# Altium schematic symbol library eLFLv2_0.SCHLIB: 24 symbols
Pins are listed as number, name and electrical type; pins without a type are passive.

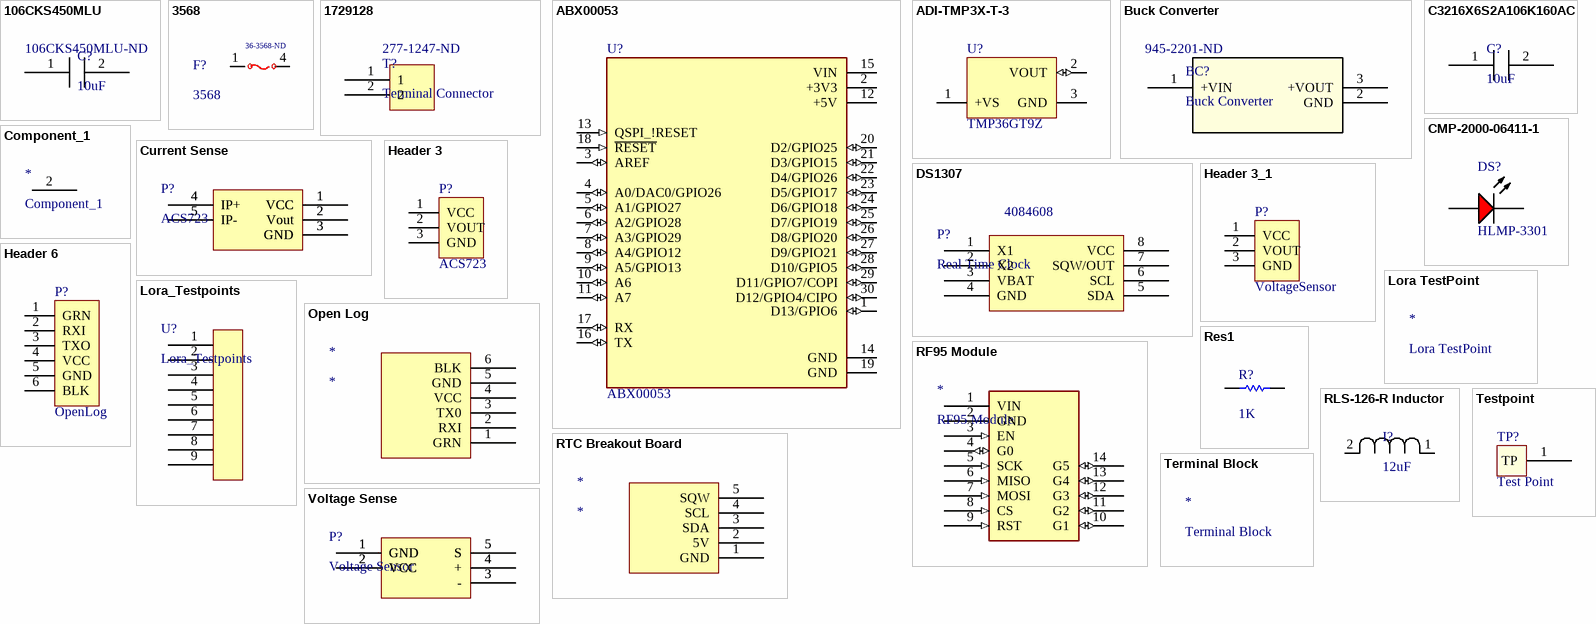
[diagram p0: symbols 106CKS450MLU to Voltage Sense]

## 106CKS450MLU
designator C?, comment 10uF  Supplier Part Number 1: 106CKS450MLU-ND
Aluminum Electrolytic Capacitor, Polarized, Aluminum (wet), 450V, 20% +Tol, 20% -Tol, 10uF, Through Hole Mount; Manufacturer: CDE Illinois Capacitor; Manufacturer Part Number: 106CKS450MLU; Supplier 1: Digi-Key; RoHS: Yes; Category: Aluminum Electrolytic Capacitors; ComponentLink1URL: https://datasheet.ciiva.com/16322/ckr-cksseries-16322639.pdf?src-supplier=Future+Electronics; ComponentLink1Description: https://datasheet.ciiva.com/16322/ckr-cksseries-16322639.pdf?src-supplier=Future+Electronics
footprint Capacitor (10uF,Polarized)
pins: 1 +, 2 -

## 3568
designator F?  Supplier Part Number 1: 36-3568-ND
Fuses/Accessories; Manufacturer: Keystone Electronics; Supplier 1: Digi-Key; Manufacturer Part Number: 3568; RoHS: Yes; Category: Fuse Holders; Stock 1: 22984; Pricing 1: 1=1.33000, 25=1.10240, 100=1.01060, 250=0.91868, 500=0.82682, 1000=0.73496, 2500=0.66606, 5000=0.64309 (USD); ComponentLink1URL: https://datasheet.ciiva.com:443/pdfs/VipMasterIC/IC/KEYC/KEYC-S-A0001230927/KEYC-S-A0001230927-1.pdf?src-supplier=IHS+Markit; ComponentLink1Description: https://datasheet.ciiva.com:443/pdfs/VipMasterIC/IC/KEYC/KEYC-S-A0001230927/KEYC-S-A0001230927-1.pdf?src-supplier=IHS+Markit; ComponentLink2URL: https://datasheet.ciiva.com/16294/m60-2p40-16294706.pdf?src-supplier=Future+Electronics; ComponentLink2Description: https://datasheet.ciiva.com/16294/m60-2p40-16294706.pdf?src-supplier=Future+Electronics; ComponentLink3URL: https://datasheet.ciiva.com/16874/70182101-16874378.pdf?src-supplier=Allied+Electronics; ComponentLink3Description: https://datasheet.ciiva.com/16874/70182101-16874378.pdf?src-supplier=Allied+Electronics
footprint Fuse
pins: 4,  1

## 1729128
designator T?, comment Terminal Connector  Supplier Part Number 1: 277-1247-ND
Barrier Strip Terminal Block, 13.5A, 1.5mm2, 1 Row(s), 1 Deck(s); Manufacturer: Phoenix Contact; Manufacturer Part Number: 1729128; Fastening Method: SCREW; Number of Decks: 1; Number of Ways: 2; Voltage Rating: 400V; Wire/Cable Gauge: 16AWG; Safety Approval: CSA,CUL,CB,EAC; Supplier 1: Digi-Key; RoHS: Yes; Category: Terminal Blocks; Stock 1: 54422; Pricing 1: 1=1.21000, 10=1.16200, 50=1.11100, 100=1.08070, 250=1.01000, 500=0.92920, 1000=0.85850, 2500=0.81810, 5000=0.77770 (USD); Mount: Board; Terminal and Terminal Block Type: BARRIER STRIP TERMINAL BLOCK; Number of Rows: 1; Current Rating: 13.5A; Wire Cross Section: 1.5mm2; RoHS Compliant: Yes; REACH SVHC: No SVHC; ComponentLink1URL: https://datasheet.ciiva.com:443/pdfs/VipMasterIC/IC/PCON/PCON-S-A0008047989/PCON-S-A0008036843-1.pdf?src-supplier=IHS+Markit; ComponentLink1Description: https://datasheet.ciiva.com:443/pdfs/VipMasterIC/IC/PCON/PCON-S-A0008047989/PCON-S-A0008036843-1.pdf?src-supplier=IHS+Markit; ComponentLink2URL: https://datasheet.ciiva.com/16046/1729128-16046181.pdf?src-supplier=Onlinecomponents.com; ComponentLink2Description: https://datasheet.ciiva.com/16046/1729128-16046181.pdf?src-supplier=Onlinecomponents.com; ComponentLink3URL: https://datasheet.ciiva.com/15169/getdatasheetpartid-199310-15169845.pdf?src-supplier=Verical; ComponentLink3Description: https://datasheet.ciiva.com/15169/getdatasheetpartid-199310-15169845.pdf?src-supplier=Verical; ComponentLink4URL: https://datasheet.ciiva.com/823/1729128-823779.pdf?src-supplier=Digi-Key; ComponentLink4Description: https://datasheet.ciiva.com/823/1729128-823779.pdf?src-supplier=Digi-Key; ComponentLink5URL: https://datasheet.ciiva.com/14607/70054405-14607157.pdf?src-supplier=Allied+Electronics; ComponentLink5Description: https://datasheet.ciiva.com/14607/70054405-14607157.pdf?src-supplier=Allied+Electronics; ComponentLink6URL: https://datasheet.ciiva.com/29218/743664-da-01-en-printklemmenblock-mkdsn-1-5-2-5-08-29218154.pdf?src-supplier=Conrad; ComponentLink6Description: https://datasheet.ciiva.com/29218/743664-da-01-en-printklemmenblock-mkdsn-1-5-2-5-08-29218154.pdf?src-supplier=Conrad
footprint Terminal Block
pins: 1, 2

## ABX00053
designator U?
ARDUINO NANO RP2040 CONNECT WITH; MF: {'manufacturer': u'Arduino'}; Package: None; Value: *; MP: ABX00053; Availability: Unavailable; Price: None
footprint Arduino Nano Every
pins: 1 D13/GPIO6 (io), 2 +3V3 (power), 3 AREF (io), 4 A0/DAC0/GPIO26 (io), 5 A1/GPIO27 (io), 6 A2/GPIO28 (io), 7 A3/GPIO29 (io), 8 A4/GPIO12 (io), 9 A5/GPIO13 (io), 10 A6 (io), 11 A7 (io), 12 +5V (power), 13 QSPI_!RESET (in), 14 GND (power), 15 VIN (power), 16 TX (io), 17 RX (io), 18 ~{RESET} (in), 19 GND (power), 20 D2/GPIO25 (io), 21 D3/GPIO15 (io), 22 D4/GPIO26 (io), 23 D5/GPIO17 (io), 24 D6/GPIO18 (io), 25 D7/GPIO19 (io), 26 D8/GPIO20 (io), 27 D9/GPIO21 (io), 28 D10/GPIO5 (io), 29 D11/GPIO7/COPI (io), 30 D12/GPIO4/CIPO (io)

## ADI-TMP3X-T-3
designator U?, comment TMP36GT9Z
Low Voltage Temperature Sensor, 2.7 to 5.5 V Supply, Industrial, 3-pin TO92 (T-3), Tray; Manufacturer: Analog Devices; ComponentLink2Description: Datasheet; PackageReference: T-3; Packing: Tray; ComponentLink2URL: http://www.analog.com/static/imported-files/data_sheets/TMP35_36_37.pdf; ComponentLink4Description: Product URL; ComponentLink3Description: Package Specification; Code_JEDEC: TO-226-AA; PartNumber: TMP36GT9Z; PackageDescription: 3-Pin Plastic Header-Style Package, 1.27 mm Pitch; PackageVersion: 042208-A, 04/2008; ComponentLink3URL: http://www.analog.com/static/imported-files/packages/PKG_PDF/TO-92(T)/T_3.pdf; ComponentLink1Description: Manufacturer URL; Supply Voltage Range: 2.7 to 5.5 V; Mounting Technology: Through Hole; DatasheetVersion: Rev. F; ComponentLink4URL: http://www.analog.com/en/mems-sensors/digital-temperature-sensors/tmp36/products/product.html; ComponentLink1URL: http://www.analog.com/en/index.html
footprint HDR1X3 (Connector; Header; 3 Position)
pins: 1 +VS (power), 2 VOUT (io), 3 GND (power)

## Buck Converter
designator BC?  Supplier Part Number 1: 945-2201-ND
Buck Converter / 5V output; Supplier 1: Digi-Key
footprint Buck Converter
pins: 1 +VIN (power), 2 GND, 3 +VOUT

## C3216X6S2A106K160AC
designator C?, comment 10uF
Ceramic Capacitor, Multilayer, Ceramic, 100V, 10% +Tol, 10% -Tol, X6S, 22% TC, 10uF, Surface Mount, 1206; Manufacturer: TDK; Manufacturer Part Number: C3216X6S2A106K160AC; Supplier 1: Digi-Key; RoHS: Yes; Category: Ceramic Capacitors; Stock 1: 266; Pricing 1: 1=1.33000, 10=1.05000, 50=0.91000, 100=0.78740, 500=0.59494, 1000=0.52495 (USD); Supplier Part Number 1: 445-C3216X6S2A106K160ACDKR-ND
footprint Ceramic Capacitor
pins: 1 +, 2 "10uF, SMD/SMT 1206 100VDC 10uF 10% X6S"

## CMP-2000-06411-1
designator DS?, comment HLMP-3301
T-1 3/4 (5 mm) Diffused LED Lamp, 1.9 V, -40 to 100 degC, 2-Pin THD, RoHS, Bulk; Manufacturer: Broadcom Avago; Forward Current: 25mA; Forward Voltage: 2.4V; Peak Wavelength: 635nm; Shape Type: Circular; High Brightness: No; Main Category: StandardLED; Test Current (It): 10mA; Dominant Wave Length: 626nm; Number of  Elements: 1; Reverse Voltage: 5V; Chip Material: GaP; Product Height (mm): 9.19mm; Lens Type: ColoredDiffused; Viewing Angle: 60deg; Type: Uni-Color; Emitting Color: Red; Luminous Intensity: 5.4mcd; Power Dissipation: 85W; DELETED: Compliant; Product Depth (mm): 6.1mm; Package Description: 2-Pin Through Hole LED, Dia 5.85 mm; Mounting Technology: ThroughHole; Manufacturer URL: http://www.avagotech.com/; Package Type: T-13/4; Operating Temp Range: -40Cto100C; Datasheet URL: http://www.avagotech.com/docs/AV02-1558EN; Mounting: ThroughHole; Lens Dimensions: 5.08x5.08x8.3mm; Package Reference: HLMP-3301; Datasheet Version: 03/2015; Pin Count: 2; Packaging: TapeandReel; Operating Temperature Classification: Industrial; Lum Intensity: 5.4mcd; Rad Hardened: No; Product Length (mm): 6.1mm; Manufacturer Part Number: HLMP-3301
footprint LED
pins: 1 A, 2 K

## Component_1
designator *
pins: 2

## Current Sense
designator P?, comment ACS723
Header, 5-pin
footprint Current Sensor
pins: 1 VCC, 1 VCC, 2 Vout, 2 Vout, 3 GND, 3 GND, 4 IP+, 4 IP+, 5 IP-, 5 IP-

## DS1307
designator P?, comment Real Time Clock  Supplier Part Number 1: 4084608
Real Time Clock, Volatile, 1 Timer(s), CMOS, PDIP8; Manufacturer: Maxim; Manufacturer Part Number: DS1307+; Package Body Material: Plastic; Number of Timers/Counters: 1; Max Supply Voltage: 5.5V; Min Supply Voltage: 4.5V; Supply Voltage-Nom: 5V; Surface Mount: No; Max Frequency: 32kHz; Package Equivalence Code: DIP8,.3; Time @ Peak Reflow Temperature-Max (s): 30s; Qualification Status: Not Qualified; Supplier 1: Future Electronics; RoHS: Yes; Category: Real Time Clocks; Pricing 1: 1=3.73000, 15=3.42000, 40=3.32000, 100=3.22000, 250=3.13000 (USD); Package Code: DIP; Number of Pins: 8; Package Shape: Rectangular; Terminal Finish: Tin; Min Operating Temperature: 0°C; Max Operating Temperature: 70°C; JESD-30 Code: R-PDIP-T8; Package Style: IN-LINEMeter; Technology: CMOS; Terminal Form: Through Hole; Terminal Position: DUAL; JESD-609 Code: e3; Moisture Sensitivity Level: 1; Peak Reflow Temperature (Cel): 260°C; Power Supplies: 5V; Length: 9.375mm; Width: 7.62mm; Height - Seated (Max): 4.572mm; Terminal Pitch: 2.54mm; Temperature Grade: COMMERCIAL; REACH SVHC: Yes; RoHS Compliant: Yes; ComponentLink1URL: https://datasheet.ciiva.com:443/pdfs/VipMasterIC/IC/MAXM/MAXM-S-A0000633411/MAXM-S-A0000664014-1.pdf?src-supplier=IHS+Markit; ComponentLink1Description: https://datasheet.ciiva.com:443/pdfs/VipMasterIC/IC/MAXM/MAXM-S-A0000633411/MAXM-S-A0000664014-1.pdf?src-supplier=IHS+Markit; ComponentLink2URL: https://datasheet.ciiva.com/17079/ds1307+-17079678.pdf?src-supplier=Allied+Electronics; ComponentLink2Description: https://datasheet.ciiva.com/17079/ds1307+-17079678.pdf?src-supplier=Allied+Electronics; ComponentLink3URL: https://datasheet.ciiva.com/1139/1647366-1139141.pdf?src-supplier=Element14; ComponentLink3Description: https://datasheet.ciiva.com/1139/1647366-1139141.pdf?src-supplier=Element14; ComponentLink4URL: https://datasheet.ciiva.com/19457/1194679-19457340.pdf?src-supplier=Jameco; ComponentLink4Description: https://datasheet.ciiva.com/19457/1194679-19457340.pdf?src-supplier=Jameco; ComponentLink5URL: https://datasheet.ciiva.com/14099/ds1307-eng-tds-14099923.pdf?src-supplier=Distrelec; ComponentLink5Description: https://datasheet.ciiva.com/14099/ds1307-eng-tds-14099923.pdf?src-supplier=Distrelec; ComponentLink6URL: https://datasheet.ciiva.com/1240/ds1307-1240423.pdf?src-supplier=Digi-Key; ComponentLink6Description: https://datasheet.ciiva.com/1240/ds1307-1240423.pdf?src-supplier=Digi-Key; ComponentLink7URL: https://datasheet.ciiva.com/1491/ds1307-1491904.pdf?src-supplier=Element14; ComponentLink7Description: https://datasheet.ciiva.com/1491/ds1307-1491904.pdf?src-supplier=Element14; ComponentLink8URL: https://datasheet.ciiva.com/14188/ds1307-14188118.pdf?src-supplier=Avnet; ComponentLink8Description: https://datasheet.ciiva.com/14188/ds1307-14188118.pdf?src-supplier=Avnet; ComponentLink9URL: https://datasheet.ciiva.com/14244/ds1307-14244525.pdf?src-supplier=Avnet; ComponentLink9Description: https://datasheet.ciiva.com/14244/ds1307-14244525.pdf?src-supplier=Avnet
footprint Real Time Clock
pins: 1 X1, 2 X2, 3 VBAT, 4 GND, 5 SDA, 6 SCL, 7 SQW/OUT, 8 VCC

## Header 3
designator P?, comment ACS723
Header, 3-Pin; LatestRevisionDate: 17-Jul-2002; LatestRevisionNote: Re-released for DXP Platform.; Publisher: Altium Limited
footprint HDR1X3 (Footprint not found)
signal-integrity model Connector
pins: 1 VCC, 2 VOUT, 3 GND

## Header 3_1
designator P?, comment VoltageSensor
Header, 3-Pin; LatestRevisionDate: 17-Jul-2002; LatestRevisionNote: Re-released for DXP Platform.; Publisher: Altium Limited
footprint HDR1X3 (Connector; Header; 3 Position)
signal-integrity model Connector
pins: 1 VCC, 2 VOUT, 3 GND

## Header 6
designator P?, comment OpenLog
Header, 6-Pin; LatestRevisionDate: 17-Jul-2002; LatestRevisionNote: Re-released for DXP Platform.; Publisher: Altium Limited
footprint HDR1X6 (Connector; Header; 6 Position)
signal-integrity model Connector
footprint Model Name (Footprint not found)
pins: 1 GRN, 2 RXI, 3 TXO, 4 VCC, 5 GND, 6 BLK

## Lora TestPoint
designator *

## Lora_Testpoints
designator U?
This act as testing point for 9 pin header on Lora for ELFL projects
footprint LORA TESTPOINTS
pins: 1, 2, 3, 4, 5, 6, 7, 8, 9

## Open Log
designator *
footprint OpenLog Breakout Board
pins: 1 GRN, 2 RXI, 3 TX0, 4 VCC, 5 GND, 6 BLK

## Res1
designator R?  value 1K  (hidden comment: Res1)
Resistor; Published: 8-Jun-2000; LatestRevisionDate: 17-Jul-2002; LatestRevisionNote: Re-released for DXP Platform.; PackageReference: AXIAL-0.3; Publisher: Altium Limited; PackageDescription: Axial Device, Thru-Hole; 2 Leads; 0.3 in Pin Spacing
footprint AXIAL-0.3 (Axial Device, Thru-Hole; 2 Leads; 0.3 in Pin Spacing)
simulation model RESISTOR (Resistor)
signal-integrity model Res
pins: 1, 2

## RF95 Module
designator *
footprint RF95
pins: 1 VIN (power), 2 GND (power), 3 EN (in), 4 G0 (io), 5 SCK (in), 6 MISO (in), 7 MOSI (in), 8 CS (in), 9 RST (in), 10 G1 (io), 11 G2 (io), 12 G3 (io), 13 G4 (io), 14 G5 (io)

## RLS-126-R Inductor
designator I?, comment 12uF
General Purpose Inductor, 12uH, 20%, 1 Element, SMD, 1813; Manufacturer: Recom; Manufacturer Part Number: RLS-126-R; Supplier 1: Digi-Key; RoHS: Yes; Category: Fixed Inductors; Stock 1: 1175; Pricing 1: 1=0.92000, 5=0.83400, 10=0.82100, 25=0.79680, 50=0.77280, 100=0.74860, 250=0.72448, 500=0.67620 (USD); Supplier Part Number 1: 945-RLS-126-RDKR-ND
footprint Inductor
pins: 1, 2

## RTC Breakout Board
designator *
footprint RTC Breakout Board
pins: 1 GND, 2 5V, 3 SDA, 4 SCL, 5 SQW

## Terminal Block
designator *

## Testpoint
designator TP?, comment Test Point  (no BOM)
footprint TP1
pins: 1 TP

## Voltage Sense
designator P?, comment Voltage Sensor
Header, 5-pin
footprint Voltage Sensor
pins: 1 GND, 1 GND, 2 VCC, 2 VCC, 3 -, 3 -, 4 +, 4 +, 5 S, 5 S